# EAGLE library part DB09 (library FPGA_FOC_lib)
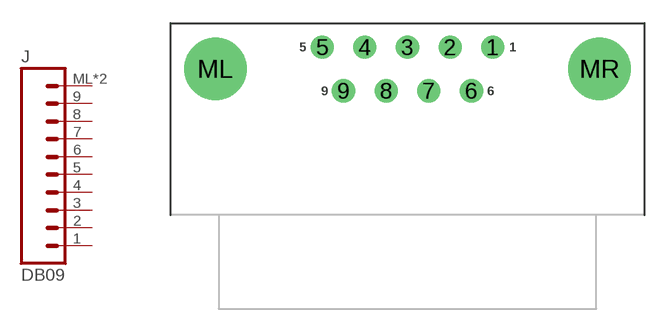
[diagram p14: symbol with the pads of AE10921; footprint AE10921]

Designator prefix J

## DB09_RA  [AE10921]
1  1  pas
2  2  pas
3  3  pas
4  4  pas
5  5  pas
6  6  pas
7  7  pas
8  8  pas
9  9  pas
ML  10  pas
MR  10  pas

## Footprint AE10921 (pad centres in mm)
Drawing for DB9 Right angle (Assmann A-Dx 09 A/KG-T2S) digikey <https://www.digikey.com/product-detail/en/assmann-wsw-components/A-DF-09-A-KG-T2S/AE10921-ND/1241800> drawings <http://www.assmann-wsw.com/fileadmin/datasheets/ASS_4888_CO.pdf> see page 73
drill 1: 1 5.54,10.92; 2 2.77,10.92; 3 0,10.92; 4 -2.77,10.92; 5 -5.54,10.92; 6 4.155,8.08; 7 1.385,8.08; 8 -1.385,8.08; 9 -4.155,8.08
drill 3.05: ML -12.495,9.5; MR 12.495,9.5